# EAGLE library part PESD5V0U5B (library heck)
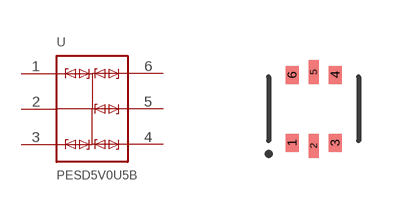
[diagram p47: symbol with the pads of SOT666; footprint SOT666]

Designator prefix U

## PESD5V0U5BV  [SOT666]
1  1
2  2
3  3
4  4
5  5
6  6

## Footprint SOT666 (pad centres in mm)
smd 0.325 x 0.45: 1 -0.538,-0.85; 3 0.538,-0.85; 4 0.538,0.85; 6 -0.538,0.85
smd 0.25 x 0.6: 2 0,-0.925; 5 0,0.925